# Altium schematic symbol library RD-19230FX.SchLib: 1 symbol
Pins are listed as number, name and electrical type; pins without a type are passive.

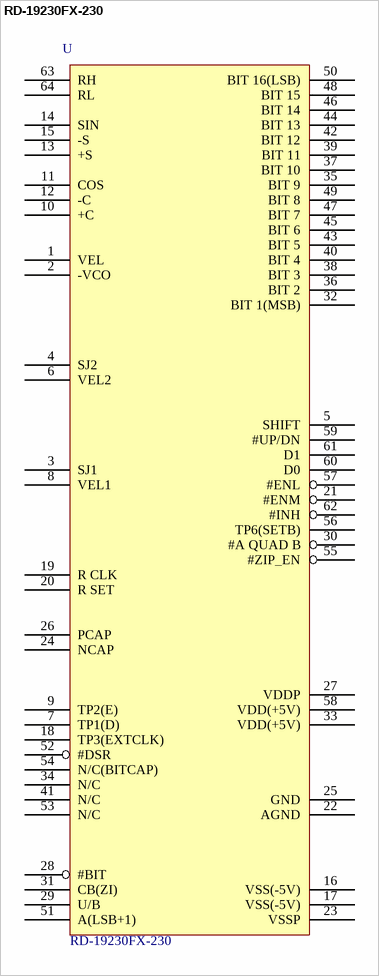
[diagram p0: symbol RD-19230FX-230]

## RD-19230FX-230
designator U  value RD-19230FX-230  (hidden comment: *)
Manufacturer: DDC; Manufacturer Code: RD-19230FX-230; Unit Price: 139,00 $
footprint MS-022
pins: 1 VEL, 2 -VCO, 3 SJ1, 4 SJ2, 5 SHIFT, 6 VEL2, 7 TP1(D), 8 VEL1, 9 TP2(E), 10 +C, 11 COS, 12 -C, 13 +S, 14 SIN, 15 -S, 16 VSS(-5V), 17 VSS(-5V), 18 TP3(EXTCLK), 19 R CLK, 20 R SET, 21 #ENM, 22 AGND, 23 VSSP, 24 NCAP, 25 GND, 26 PCAP, 27 VDDP, 28 #BIT, 29 U/B, 30 #A QUAD B, 31 CB(ZI), 32 BIT 1(MSB), 33 VDD(+5V), 34 N/C, 35 BIT 9, 36 BIT 2, 37 BIT 10, 38 BIT 3, 39 BIT 11, 40 BIT 4, 41 N/C, 42 BIT 12, 43 BIT 5, 44 BIT 13, 45 BIT 6, 46 BIT 14, 47 BIT 7, 48 BIT 15, 49 BIT 8, 50 BIT 16(LSB), 51 A(LSB+1), 52 #DSR, 53 N/C, 54 N/C(BITCAP), 55 #ZIP_EN, 56 TP6(SETB), 57 #ENL, 58 VDD(+5V), 59 #UP/DN, 60 D0, 61 D1, 62 #INH, 63 RH, 64 RL